# Altium schematic symbol library 2N7002.SchLib: 1 symbol
Pins are listed as number, name and electrical type; pins without a type are passive.

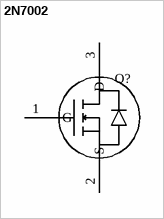
[diagram p0: symbol 2N7002]

## 2N7002
designator Q?
N-channel enhancement MOSFET (body diode); Footprint: SOT-23TO-236_318-08_ONS; Datasheet: 2N7002
pins: 1 G, 2 S, 3 D